# Altium schematic symbol library ElectroMechanical.SchLib: 6 symbols
Pins are listed as number, name and electrical type; pins without a type are passive.

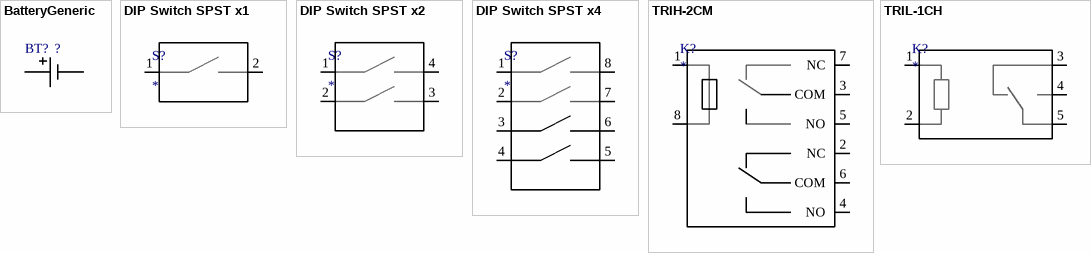
[diagram p0: symbols BatteryGeneric to TRIL-1CH]

## BatteryGeneric
designator BT?, comment ?
Name: ?
pins: 1, 2

## DIP Switch SPST x1
designator S?
Name: *
pins: 1, 2

## DIP Switch SPST x2
designator S?
Name: *
pins: 1, 2, 3, 4

## DIP Switch SPST x4
designator S?
Name: *
pins: 1, 2, 3, 4, 5, 6, 7, 8

## TRIH-2CM
designator K?
Name: *
pins: 1 17, 2 NC, 3 COM, 4 NO, 5 NO, 6 COM, 7 NC, 8 18

## TRIL-1CH
designator K?
Name: *
pins: 1 17, 2 18, 3 19, 4 20, 5 21